# EAGLE library part 74LVC257APW,112 (library SamacSys_Parts)
74LVC257A - Quad 2-input multiplexer with 5 V tolerant inputs/outputs; 3-state@en-us Source: Datasheet <https://componentsearchengine.com/Datasheets/1/74LVC257APW,112.pdf>
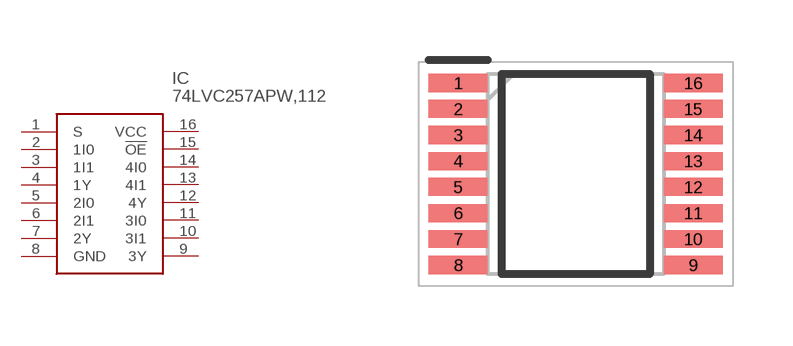
[diagram p236: symbol with the pads of SOP65P640X110-16N; footprint SOP65P640X110-16N]

Designator prefix IC

## 74LVC257APW,112 (DESCRIPTION: 74LVC257A - Quad 2-input multiplexer with 5 V tolerant inputs/outputs; 3-state@en-us; HEIGHT: 1.1mm; MANUFACTURER_NAME: Nexperia; MANUFACTURER_PART_NUMBER: 74LVC257APW,112; MOUSER_PART_NUMBER: 771-LVC257APW112; MOUSER_PRICE-STOCK: https://www.mouser.com/Search/Refine.aspx?Keyword=771-LVC257APW112)  [SOP65P640X110-16N]
1  S
2  1I0
3  1I1
4  1Y
5  2I0
6  2I1
7  2Y
8  GND
9  3Y
10  3I1
11  3I0
12  4Y
13  4I1
14  4I0
15  !OE
16  VCC

## Footprint SOP65P640X110-16N (pad centres in mm)
SOT403-1
smd 1.475 x 0.45: 1 -2.938,2.275; 2 -2.938,1.625; 3 -2.938,0.975; 4 -2.938,0.325; 5 -2.938,-0.325; 6 -2.938,-0.975; 7 -2.938,-1.625; 8 -2.938,-2.275; 9 2.938,-2.275; 10 2.938,-1.625; 11 2.938,-0.975; 12 2.938,-0.325; 13 2.938,0.325; 14 2.938,0.975; 15 2.938,1.625; 16 2.938,2.275